# EAGLE library part LTC2852 (library di_ic)
LTC2852 - 3.3V 20Mbps RS485/RS422 Full-Duplex Transceiver Reference: http://www.linear.com/pc/downloadDocument.do?navId=H0,C1,C1007,C1017,P36294,D19198
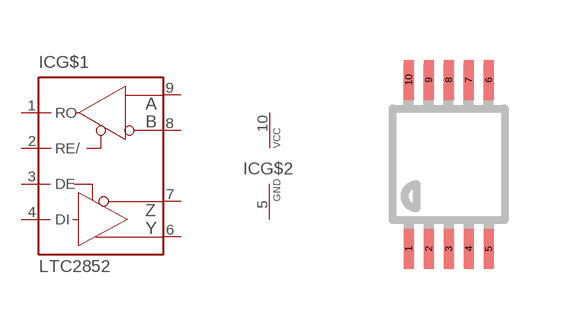
[diagram p22: symbol with the pads of MSOP10; footprint MSOP10]

Designator prefix IC; gates G$1=MAX3491 G$2=VCC-GND

## LTC2852  [MSOP10]
1  G$1:RO  out
2  G$1:RE/  in
3  G$1:DE  in
4  G$1:DI  in
5  G$2:GND  pwr
6  G$1:Y  pas
7  G$1:Z  pas
8  G$1:B  pas
9  G$1:A  pas
10  G$2:VCC  pwr

## Footprint MSOP10 (pad centres in mm)
10-Lead Mini Small Outline Package [MSOP] (RM-10) Source: http://www.analog.com/UploadedFiles/Data_Sheets/35641221898805SSM2167_b.pdf COMPLIANT TO JEDEC STANDARDS MO-187BA
smd 0.25 x 1: 1 -1,-2.113; 2 -0.5,-2.113; 3 0,-2.113; 4 0.5,-2.113; 5 1,-2.113; 6 1,2.113; 7 0.5,2.113; 8 0,2.113; 9 -0.5,2.113; 10 -1,2.113